# EAGLE library part PICAXE28X (library untitled)
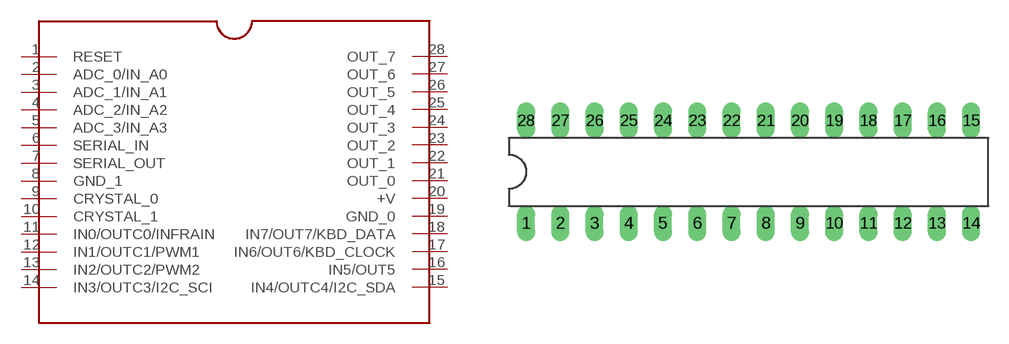
[diagram p0: symbol with the pads of DIL28-3; footprint DIL28-3]

Designator prefix -

## PICAXE28X  [DIL28-3]
1  RESET  pas
2  ADC_0/IN_A0  in
3  ADC_1/IN_A1  in
4  ADC_2/IN_A2  in
5  ADC_3/IN_A3  in
6  SERIAL_IN  pas
7  SERIAL_OUT  pas
8  GND_1  sup
9  CRYSTAL_0  pas
10  CRYSTAL_1  pas
11  IN0/OUTC0/INFRAIN
12  IN1/OUTC1/PWM1
13  IN2/OUTC2/PWM2
14  IN3/OUTC3/I2C_SCI
15  IN4/OUTC4/I2C_SDA
16  IN5/OUT5
17  IN6/OUT6/KBD_CLOCK
18  IN7/OUT7/KBD_DATA
19  GND_0  pas
20  +V  pwr
21  OUT_0  out
22  OUT_1  out
23  OUT_2  out
24  OUT_3  out
25  OUT_4  out
26  OUT_5  out
27  OUT_6  out
28  OUT_7  out

## Footprint DIL28-3 (pad centres in mm)
Dual In Line package type P
drill 0.813 long: 1 -16.51,-3.81; 2 -13.97,-3.81; 3 -11.43,-3.81; 4 -8.89,-3.81; 5 -6.35,-3.81; 6 -3.81,-3.81; 7 -1.27,-3.81; 8 1.27,-3.81; 9 3.81,-3.81; 10 6.35,-3.81; 11 8.89,-3.81; 12 11.43,-3.81; 13 13.97,-3.81; 14 16.51,-3.81; 15 16.51,3.81; 16 13.97,3.81; 17 11.43,3.81; 18 8.89,3.81; 19 6.35,3.81; 20 3.81,3.81; 21 1.27,3.81; 22 -1.27,3.81; 23 -3.81,3.81; 24 -6.35,3.81; 25 -8.89,3.81; 26 -11.43,3.81; 27 -13.97,3.81; 28 -16.51,3.81